# Altium schematic symbol library headers.SchLib: 26 symbols
Pins are listed as number, name and electrical type; pins without a type are passive.

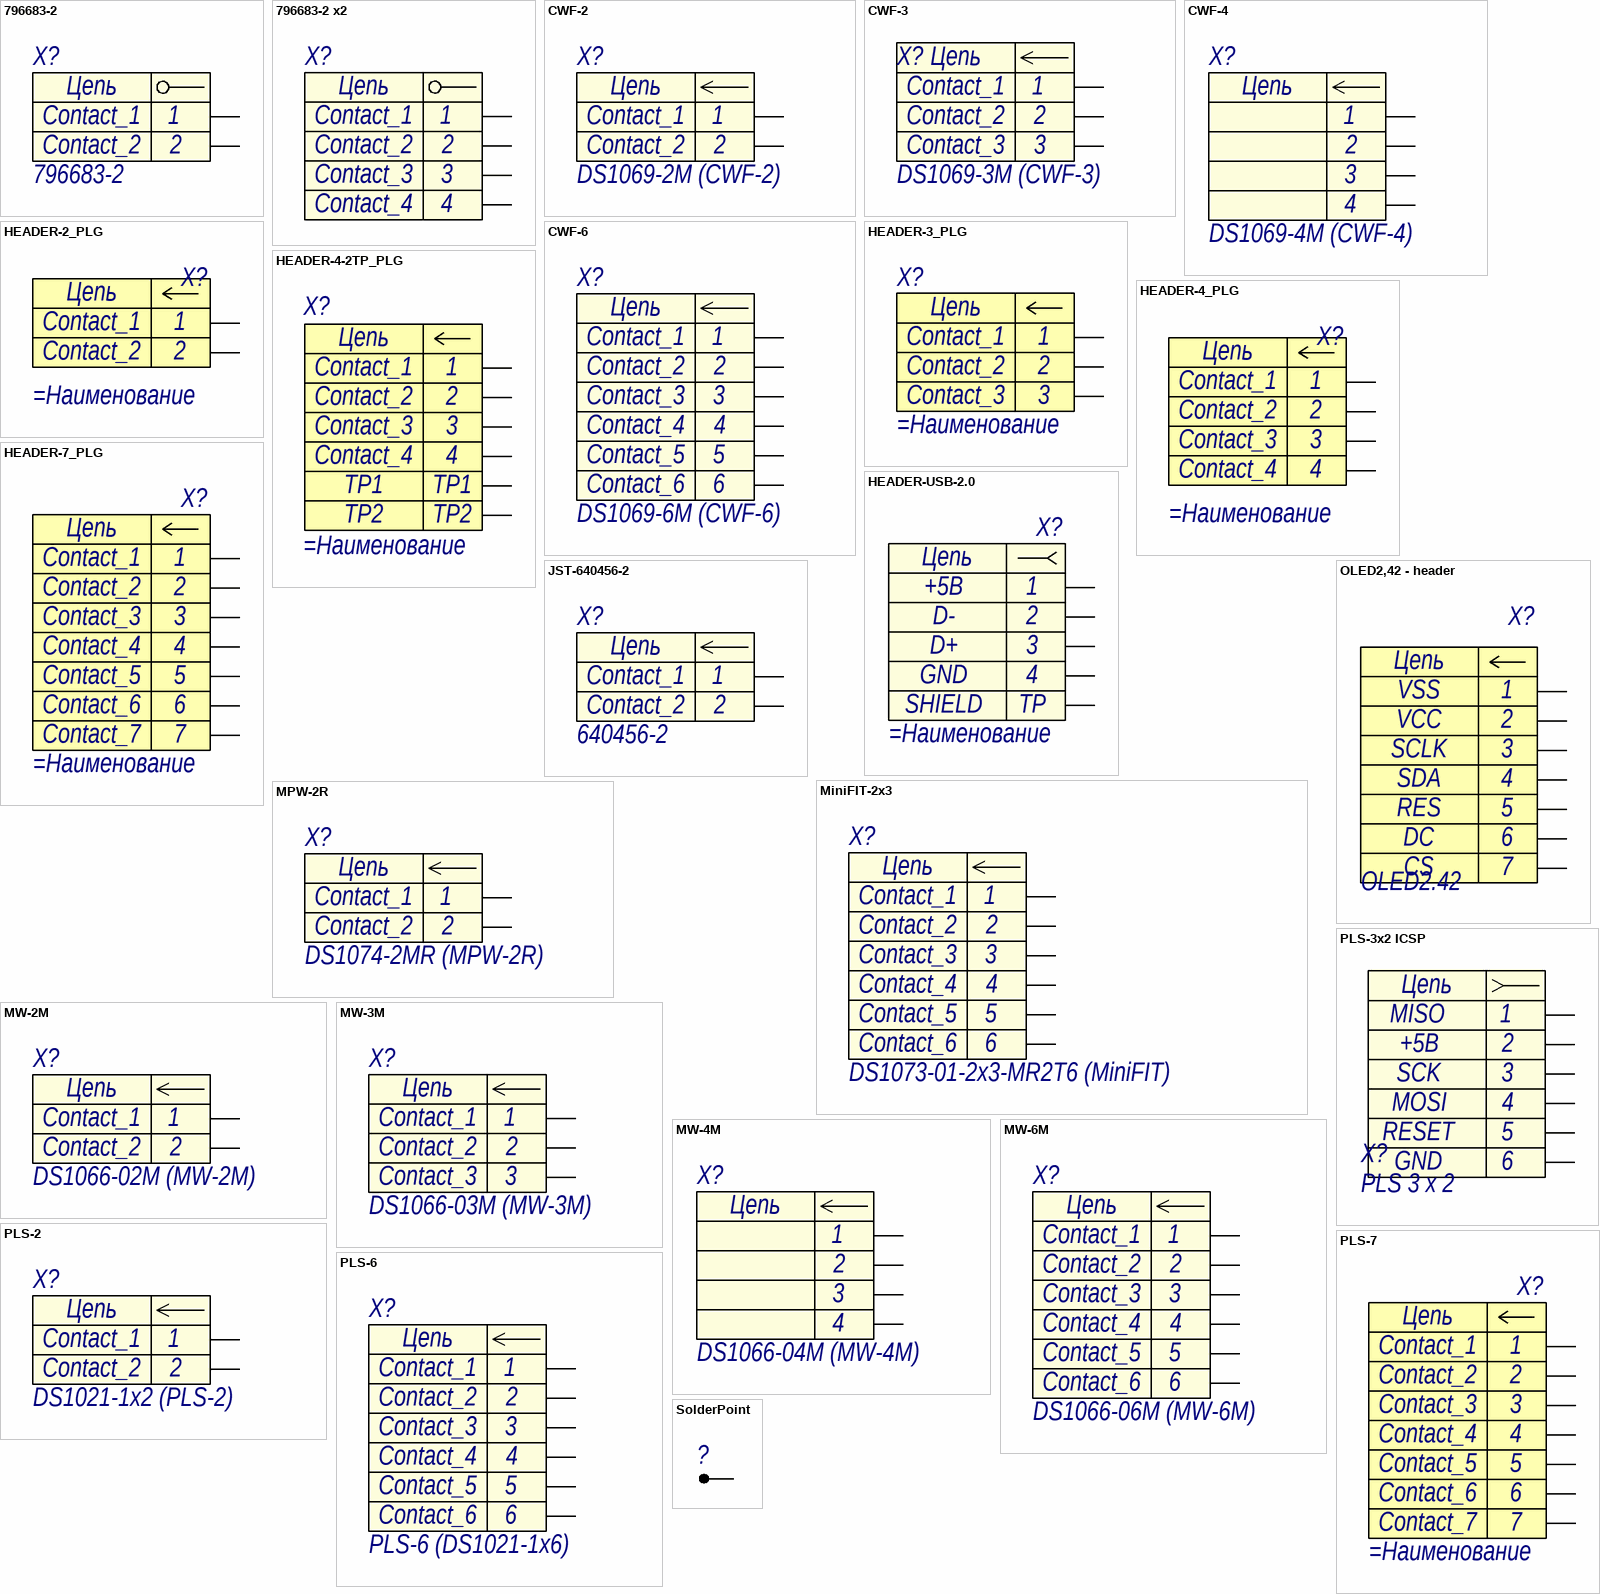
[diagram p0: symbols 796683-2 to SolderPoint]

## 796683-2
designator X?
Винтовой клеммник (наборный 2х2); Contact_1: Contact_1; Contact_2: Contact_2; Name: 796683-2
footprint 796683-2
pins: 1, 2
text: Цепь

## 796683-2 х2
designator X?, comment 796683-2  (value not drawn)
Винтовой клеммник (наборный 2х2); Contact_1: Contact_1; Contact_2: Contact_2; Contact_3: Contact_3; Name: 796683-2; Contact_4: Contact_4
footprint 796683-2*2
pins: 1, 2, 3, 4
text: Цепь

## CWF-2
designator X?, comment DS1069-2M (CWF-2)
Разъем - 2 конт. прямая вилка на плату; Contact_1: Contact_1; Contact_2: Contact_2; Name: DS1069-2M (CWF-2)
footprint CWF-2
pins: 1, 2
text: Цепь

## CWF-3
designator X?, comment DS1069-3M (CWF-3)
Разъем - 3 конт. прямая вилка на плату; Contact_1: Contact_1; Contact_2: Contact_2; Contact_3: Contact_3; Name: DS1069-3M (CWF-3)
footprint CWF-3
pins: 1, 2, 3
text: Цепь

## CWF-4
designator X?, comment DS1069-4M (CWF-4)
Разъем - 4 конт. прямая вилка на плату; Name: DS1069-4M (CWF-4)
footprint CWF-4
pins: 1, 2, 3, 4
text: Цепь

## CWF-6
designator X?, comment DS1069-6M (CWF-6)
Разъем - 6 конт. прямая вилка на плату; Contact_1: Contact_1; Contact_2: Contact_2; Contact_3: Contact_3; Contact_4: Contact_4; Contact_5: Contact_5; Contact_6: Contact_6; Name: DS1069-6M (CWF-6)
footprint CWF-6
pins: 1, 2, 3, 4, 5, 6
text: Цепь

## HEADER-2_PLG
designator X?
Contact_1: Contact_1; Contact_2: Contact_2; ClassName: *
pins: 1, 2
text: Цепь

## HEADER-3_PLG
designator X?
Contact_1: Contact_1; Contact_2: Contact_2; Contact_3: Contact_3; ClassName: *
pins: 1, 2, 3
text: Цепь

## HEADER-4-2TP_PLG
designator X?
ClassName: *; Contact_1: Contact_1; Contact_2: Contact_2; Contact_3: Contact_3; Contact_4: Contact_4
pins: 1, 2, 3, 4, TP1, TP2
text: Цепь

## HEADER-4_PLG
designator X?
Contact_1: Contact_1; Contact_2: Contact_2; Contact_3: Contact_3; Contact_4: Contact_4; ClassName: *
pins: 1, 2, 3, 4
text: Цепь

## HEADER-7_PLG
designator X?
Contact_1: Contact_1; Contact_2: Contact_2; Contact_3: Contact_3; Contact_4: Contact_4; Contact_5: Contact_5; Contact_6: Contact_6; Contact_7: Contact_7; ClassName: *
pins: 1, 2, 3, 4, 5, 6, 7
text: Цепь

## HEADER-USB-2.0
designator X?
Contact_1: +5В; Contact_2: D-; Contact_3: D+; Contact_4: GND
footprint USB-A (Универсальный разъем USB-A для поверхностного и сквохного монтажа)
pins: 1, 2, 3, 4, TP
text: Цепь; SHIELD

## JST-640456-2
designator X?, comment 640456-2
Разъем - 2 конт. прямая вилка на плату; Contact_1: Contact_1; Contact_2: Contact_2; Name: 640456-2
footprint JST-640456-2
pins: 1, 2
text: Цепь

## MiniFIT-2x3
designator X?, comment DS1073-01-2x3-MR2T6 (MiniFIT)
Разъем - 6 конт. угловая вилка на плату(Minifit); Contact_1: Contact_1; Contact_2: Contact_2; Contact_3: Contact_3; Contact_4: Contact_4; Contact_5: Contact_5; Contact_6: Contact_6; Name: DS1073-01-2x3-MR2T6 (MiniFIT)
footprint DS1073-01-2x3-MR2T6
pins: 1, 2, 3, 4, 5, 6
text: Цепь

## MPW-2R
designator X?, comment DS1074-2MR (MPW-2R)
Разъем - 2 конт. угловая вилка на плату MPW-2R; Contact_1: Contact_1; Contact_2: Contact_2; Name: DS1074-2MR (MPW-2R)
pins: 1, 2
text: Цепь

## MW-2M
designator X?, comment DS1066-02M (MW-2M)
Разъем - 2 конт. прямая вилка на плату; Contact_1: Contact_1; Contact_2: Contact_2; Name: DS1066-02M (MW-2M)
footprint MW-2M
pins: 1, 2
text: Цепь

## MW-3M
designator X?, comment DS1066-03M (MW-3M)
Разъем - 3 конт. прямая вилка на плату; Contact_1: Contact_1; Contact_2: Contact_2; Contact_3: Contact_3; Name: DS1066-03M (MW-3M)
footprint MW-3M
pins: 1, 2, 3
text: Цепь

## MW-4M
designator X?, comment DS1066-04M (MW-4M)
Разъем - 4 конт. прямая вилка на плату; Name: DS1066-04M (MW-4M)
pins: 1, 2, 3, 4
text: Цепь

## MW-6M
designator X?, comment DS1066-06M (MW-6M)
Разъем - 6 конт. прямая вилка на плату; Contact_1: Contact_1; Contact_2: Contact_2; Contact_3: Contact_3; Contact_4: Contact_4; Contact_5: Contact_5; Contact_6: Contact_6; Name: DS1066-06M (MW-6M)
footprint MW-6M
pins: 1, 2, 3, 4, 5, 6
text: Цепь

## OLED2,42 - header
designator X?, comment OLED2.42
OLED дисплей 2.42inc - PLS2.54 - 1x7; Contact_1: VSS; Contact_2: VCC; Contact_3: SCLK; Contact_4: SDA; Contact_5: RES; Contact_6: DC; Contact_7: CS; ClassName: *; Наименование: OLED2.42
footprint OLED2.42-PLS2.54-1x7 (OLED 2.42inc, PLS2.54-1x7)
pins: 1, 2, 3, 4, 5, 6, 7
text: Цепь

## PLS-2
designator X?, comment DS1021-1x2 (PLS-2)
Разъем - 2 конт. прямая вилка на плату, шаг 2,54 мм; Contact_1: Contact_1; Contact_2: Contact_2; Name: DS1021-1x2 (PLS-2)
footprint PLS-2
pins: 1, 2
text: Цепь

## PLS-3x2 ICSP
designator X?, comment PLS 3 x 2
Разъем - 6 конт. 2x3, шаг 2,54 мм; Contact_1: MISO; Contact_2: +5В; Contact_3: SCK; Contact_4: MOSI; Contact_5: RESET; Contact_6: GND; Name: PLS 3 x 2
footprint pls-2,54-3x2-tht-v
pins: 1, 2, 3, 4, 5, 6
text: Цепь

## PLS-6
designator X?, comment PLS-6 (DS1021-1x6)
Разъем - 6 конт. прямая вилка на плату, шаг 2,54 мм; Contact_1: Contact_1; Contact_2: Contact_2; Contact_3: Contact_3; Contact_4: Contact_4; Contact_5: Contact_5; Contact_6: Contact_6; Name: PLS-6 (DS1021-1x6)
footprint PLS-6
pins: 1, 2, 3, 4, 5, 6
text: Цепь

## PLS-7
designator X?
Contact_1: Contact_1; Contact_2: Contact_2; Contact_3: Contact_3; Contact_4: Contact_4; Contact_5: Contact_5; Contact_6: Contact_6; Contact_7: Contact_7; ClassName: *
footprint pls-2,54-7-tht-v (PLS-7)
pins: 1, 2, 3, 4, 5, 6, 7
text: Цепь

## SolderPoint
designator ?
Контакт
footprint SOLDER_POINT
pins: 1

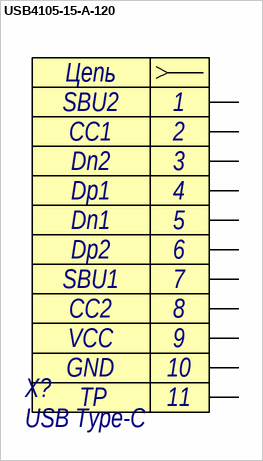
[diagram p1: symbol USB4105-15-A-120]

## USB4105-15-A-120
designator X?, comment USB Type-C
USB Type-C USB4105-GF-A / GCT; Contact_1: SBU2; Contact_2: CC1; Contact_3: Dn2; Contact_4: Dp1; Contact_5: Dn1; Contact_6: Dp2; Contact_7: SBU1; Contact_8: CC2; Contact_9: VCC; Contact_10: GND; Name: USB Type-C
footprint USB4105-15-A-120 (USB Type-c 16p USB4105-15-A-120)
pins: 1 B8, 2 A5, 3 B7, 4 A6, 5 A7, 6 B6, 7 A8, 8 B5, 9 GND, 10 VCC, TP
text: Цепь; 11